# Altium footprint library PCB - CAPACITOR - CHIP - CAPC_1210.PCBLIB: 1 footprints
Each footprint in its own frame and in the unit in brackets; x right, y up, seen from the top. Pads: shape width x height; smd on the part's side, far side on the other; paste and mask are expansions set on the pad; w line width, h text height; cw(c..) or ccw(c..) is an arc to the next point about the centre after c.
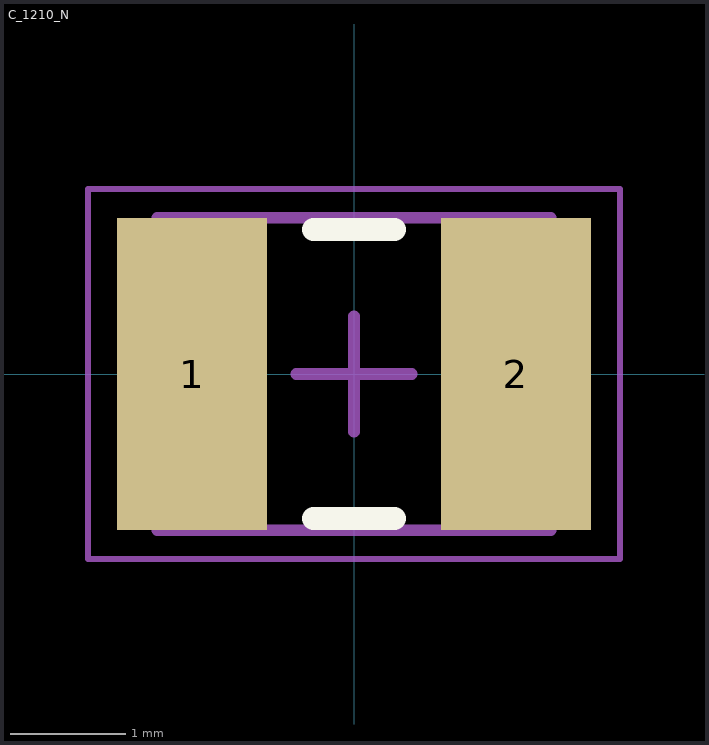
[diagram p0: the footprint, top view; thin cyan lines are the x and y axes]

## C_1210_N [mm] "Chip Capacitor, 2-Leads, Body 3.4x2.7mm, IPC Medium Density"
height 2.8
pads (2):
  rect 1.3x2.7 smd: 1(-1.4,0) 2(1.4,0)
Top Overlay:
  lines w0.2: -0.35,-1.25 0.35,-1.25 ; -0.35,1.25 0.35,1.25
Top Assembly:
  lines w0.1: -1.7,-1.35 -1.7,1.35 1.7,1.35 1.7,-1.35 -1.7,-1.35
Top Courtyard:
  lines w0.05: -2.3,-1.6 -2.3,1.6 2.3,1.6 2.3,-1.6 -2.3,-1.6
Top Designator:
  text ".Designator" at 2.4,0.425 h1
Top Component Center:
  lines w0.1: -0.5,0 0.5,0 ; 0,-0.5 0,0.5
Top Value:
  text ".Comment" at 2.4,-0.55 h1
3D body: height 2.8, standoff 0, extent -1.2,-1.35 1.2,1.35
3D body: height 2.8, standoff 0, extent -1.7,-1.35 -1.2,1.35
3D body: height 2.8, standoff 0, extent 1.2,-1.35 1.7,1.35